# EAGLE library part SSW-107-02-S-Q (library con-samtec)
THROUGH-HOLE .025" SQ POST SOCKET Source: Samtec SSW.pdf
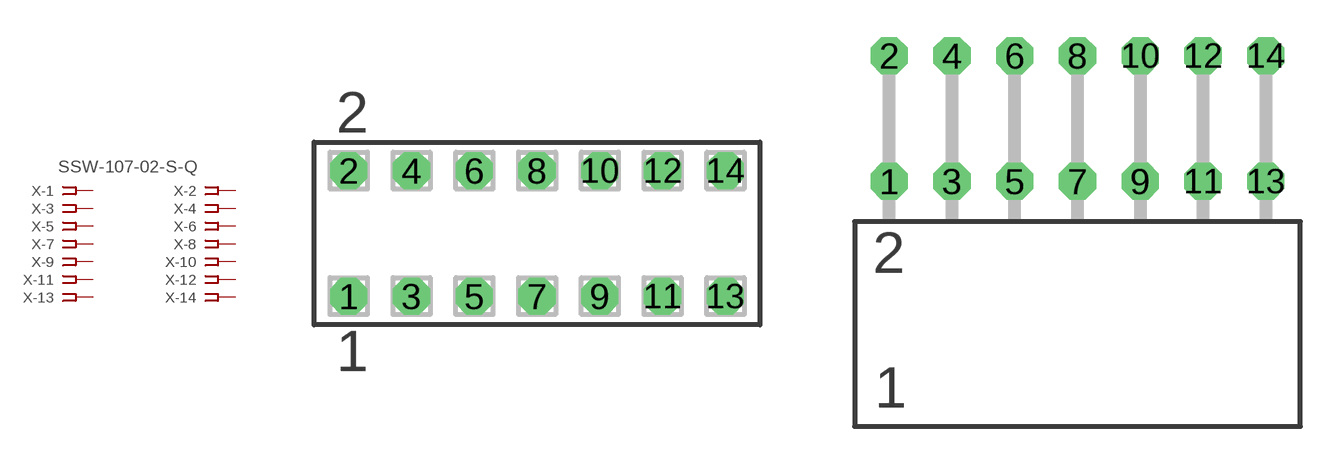
[diagram p141: symbol with the pads of SSW-107-02-S-Q; footprints SSW-107-02-S-Q, SSW-107-02-S-Q-RA]

Designator prefix X; gates -1=FPINV -2=FPIN -3=FPIN -4=FPIN -5=FPIN -6=FPIN -7=FPIN -8=FPIN -9=FPIN -10=FPIN -11=FPIN -12=FPIN -13=FPIN -14=FPIN

## SSW-107-02-S-Q  [SSW-107-02-S-Q]
1  -1:1  pas
2  -2:1  pas
3  -3:1  pas
4  -4:1  pas
5  -5:1  pas
6  -6:1  pas
7  -7:1  pas
8  -8:1  pas
9  -9:1  pas
10  -10:1  pas
11  -11:1  pas
12  -12:1  pas
13  -13:1  pas
14  -14:1  pas

## SSW-107-02-S-QRA  [SSW-107-02-S-Q-RA]
Pads as for SSW-107-02-S-Q

## Footprint SSW-107-02-S-Q (pad centres in mm)
THROUGH-HOLE .025" SQ POST SOCKET Source: Samtec SSW.pdf
drill 1 pad 1.5 octagon: 1 -7.62,-2.54; 2 -7.62,2.54; 3 -5.08,-2.54; 4 -5.08,2.54; 5 -2.54,-2.54; 6 -2.54,2.54; 7 0,-2.54; 8 0,2.54; 9 2.54,-2.54; 10 2.54,2.54; 11 5.08,-2.54; 12 5.08,2.54; 13 7.62,-2.54; 14 7.62,2.54

## Footprint SSW-107-02-S-Q-RA (pad centres in mm)
THROUGH-HOLE .025" SQ POST SOCKET Source: Samtec SSW.pdf
drill 1 pad 1.5 octagon: 1 -7.62,1.524; 2 -7.62,6.604; 3 -5.08,1.524; 4 -5.08,6.604; 5 -2.54,1.524; 6 -2.54,6.604; 7 0,1.524; 8 0,6.604; 9 2.54,1.524; 10 2.54,6.604; 11 5.08,1.524; 12 5.08,6.604; 13 7.62,1.524; 14 7.62,6.604